# Altium footprint library ATK-PAJ7620U2_V1.2.PcbLib: 4 footprints
Each footprint in its own frame and in the unit in brackets; x right, y up, seen from the top. Pads: shape width x height; smd on the part's side, far side on the other; paste and mask are expansions set on the pad; w line width, h text height; cw(c..) or ccw(c..) is an arc to the next point about the centre after c.
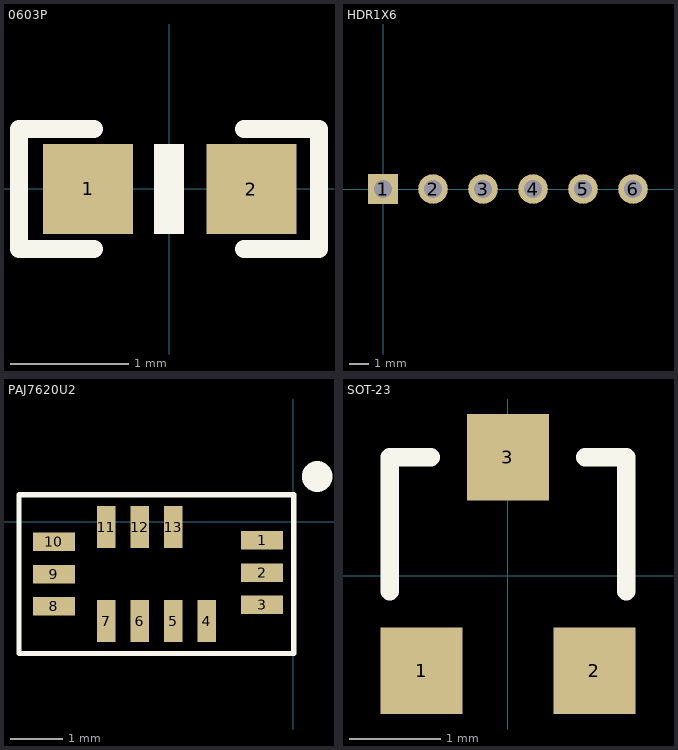
[diagram p0: the footprints below, top view; thin cyan lines are the x and y axes]

## 0603P [mil]
pads (2):
  rect 30x30 smd: 1(-27,0) 2(27.5,-0.06)
Top Overlay:
  region: 4.96,-15.07 4.96,14.93 -5.04,14.93 -5.04,-15.07
  lines w6: -25,-20.06 -50,-20.06 -50,19.94 -25,19.94 ; 25,-20.06 50,-20.06 50,19.94 25,19.94

## HDR1X6 [mm] "Connector; Header; 6 Position"
pads (6):
  rect 1.5x1.5 hole 0.9: 1(0,0)
  round 1.5 hole 0.9: 2(2.54,0) 3(5.08,0) 4(7.62,0) 5(10.16,0) 6(12.7,0)
Bottom Overlay:
  lines w0.2: -1.27,-1.27 13.97,-1.27 13.97,1.27 -1.27,1.27 -1.27,-1.27

## PAJ7620U2 [mm]
pads (13):
  rect 0.8x0.35 smd: 1(-0.593,-0.356) 2(-0.593,-0.966) 3(-0.593,-1.576) 8(-4.53,-1.601) 9(-4.53,-0.991) 10(-4.53,-0.381)
  rect 0.35x0.8 smd: 4(-1.635,-1.88) 5(-2.27,-1.88) 6(-2.905,-1.88) 7(-3.54,-1.88) 11(-3.54,-0.102) 12(-2.905,-0.102) 13(-2.27,-0.102)
Top Overlay:
  circle w0.508: c0.449,0.855 r0.036
  lines w0.1: -5.165,0.508 -5.191,0.508 ; -5.191,0.508 -5.191,-2.492 0.009,-2.492 0.009,0.508 -5.191,0.508

## SOT-23 [mm] "SOT-23; 3 Leads; Body 3.0 x 2.5 mm, inc. leads (LxW max)"
height 1.2
pads (3):
  rect 0.9x0.95 smd: 1(-0.95,-1.048) 2(0.95,-1.048) 3(0,1.302)
Top Overlay:
  lines w0.2: -1.3,-0.173 -1.3,1.302 -0.85,1.302 ; 0.85,1.302 1.3,1.302 1.3,-0.173